# EAGLE library part MSP430 (library PocketCube)
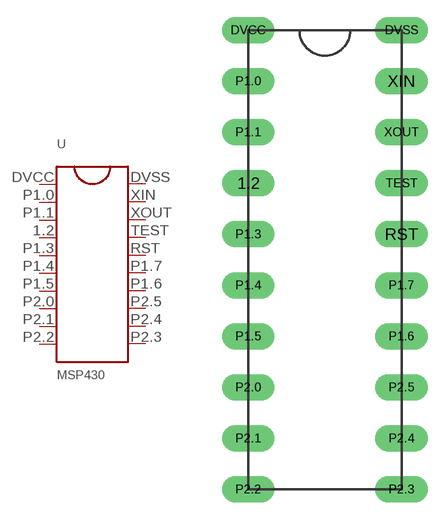
[diagram p1: symbol with the pads of MSP430; footprint MSP430]

Designator prefix -

## MSP430  [MSP430]
1.2  P1.2
DVCC  DVCC
DVSS  DVSS
P1.0  P1.0
P1.1  P1.1
P1.3  P1.3
P1.4  P1.4
P1.5  P1.5
P1.6  P1.6
P1.7  P1.7
P2.0  P2.0
P2.1  P2.1
P2.2  P2.2
P2.3  P2.3
P2.4  P2.4
P2.5  P2.5
RST  RST
TEST  TEST
XIN  XIN
XOUT  XOUT

## Footprint MSP430 (pad centres in mm)
drill 0.8 long: 1.2 0,15.24; DVCC 0,22.86; DVSS 7.62,22.86; P1.0 0,20.32; P1.1 0,17.78; P1.3 0,12.7; P1.4 0,10.16; P1.5 0,7.62; P1.6 7.62,7.62; P1.7 7.62,10.16; P2.0 0,5.08; P2.1 0,2.54; P2.2 0,0; P2.3 7.62,0; P2.4 7.62,2.54; P2.5 7.62,5.08; RST 7.62,12.7; TEST 7.62,15.24; XIN 7.62,20.32; XOUT 7.62,17.78